# Altium footprint library leggiero.PcbLib: 15 footprints
Each footprint in its own frame and in the unit in brackets; x right, y up, seen from the top. Pads: shape width x height; smd on the part's side, far side on the other; paste and mask are expansions set on the pad; w line width, h text height; cw(c..) or ccw(c..) is an arc to the next point about the centre after c.
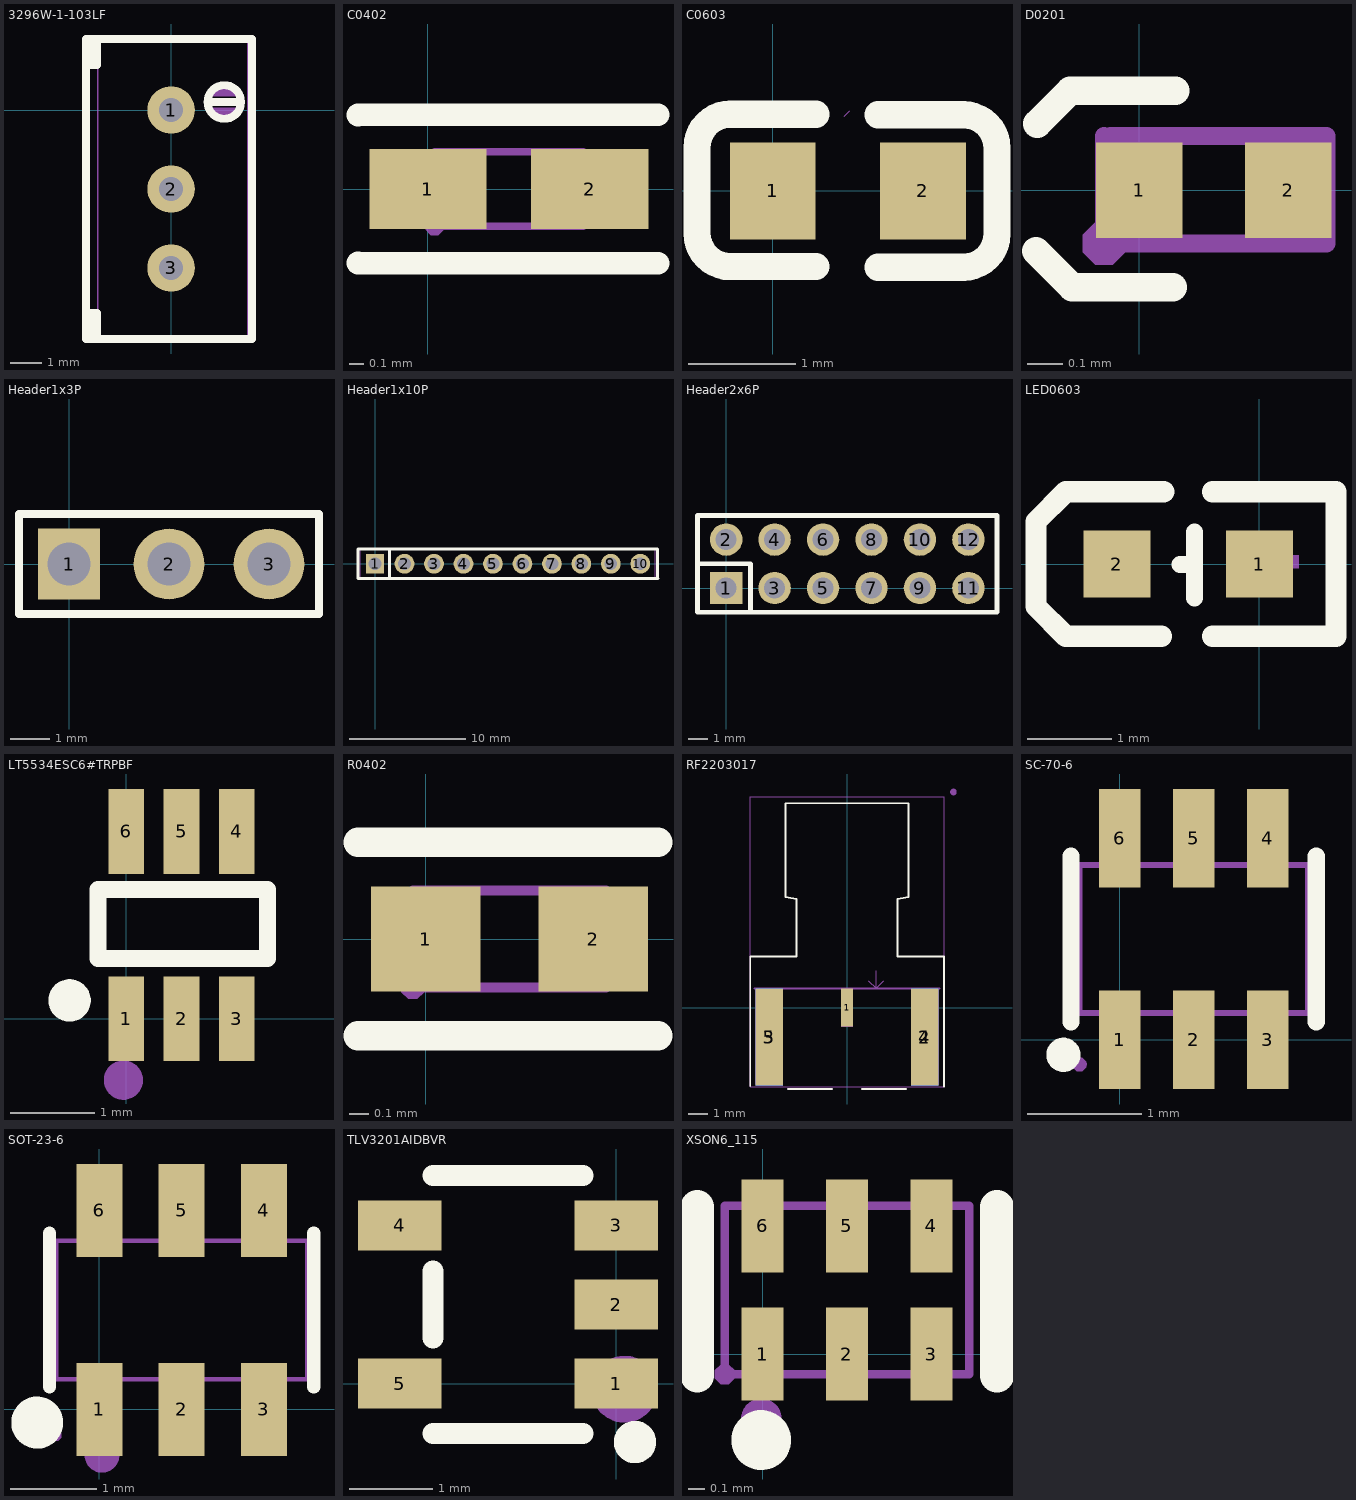
[diagram p0: the footprints below, top view; thin cyan lines are the x and y axes]

## 3296W-1-103LF [mil] "C34846"
pads (3):
  round 60 hole 30: 1(0,0) 2(0,-100) 3(0,-200)
Top Overlay:
  lines w10: 52.36,10.4 67.36,10.4 ; 88.61,10.01 cw(c67.35,10.21) 88.61,10.4 ; 67.36,10.4 82.36,10.4 67.36,10.4 ; -107.64,-290 102.36,-290 102.36,90 -107.64,90 -107.64,-290 ; -101.58,-287 -93.71,-287 -93.71,-257 -101.58,-257 -101.58,-287 ; -101.58,57.02 -93.71,57.02 -93.71,87.02 -101.58,87.02 -101.58,57.02
Mechanical 6:
  region: 87.27,17.65 86.13,20.69 82.14,25.81 76.81,29.51 70.61,31.45 64.12,31.45 57.92,29.51 52.58,25.81 48.59,20.69 47.45,17.65
  region: 47.45,3.16 48.59,0.12 52.58,-5 57.92,-8.7 64.11,-10.64 70.61,-10.64 76.8,-8.7 82.14,-5 86.13,0.12 87.27,3.16
Mechanical 15:
  region: -90.36,87.6 -90.38,88.57 -91.75,89.92 -93.68,89.92 -95.06,88.57 -95.08,87.6 -95.08,87.61 -95.06,86.64 -93.68,85.29 -91.75,85.29 -90.38,86.64
  region: 9.84,0.4 9.8,2.34 8.27,5.89 5.51,8.6 1.94,10.06 -1.93,10.06 -5.51,8.6 -8.27,5.89 -9.8,2.34 -9.84,0.4 -9.8,-1.53 -8.27,-5.08 -5.51,-7.79 -1.93,-9.25 1.94,-9.25 5.51,-7.79 8.27,-5.08 9.8,-1.53
  region: 9.84,-99.59 9.8,-97.66 8.27,-94.11 5.51,-91.4 1.94,-89.94 -1.93,-89.94 -5.51,-91.4 -8.27,-94.11 -9.8,-97.66 -9.84,-99.59 -9.8,-101.53 -8.27,-105.08 -5.51,-107.79 -1.93,-109.25 1.94,-109.25 5.51,-107.79 8.27,-105.08 9.8,-101.53
  region: 9.84,-200.38 9.8,-198.45 8.27,-194.9 5.51,-192.19 1.94,-190.73 -1.93,-190.73 -5.51,-192.19 -8.27,-194.9 -9.8,-198.45 -9.84,-200.38 -9.8,-202.32 -8.27,-205.87 -5.51,-208.58 -1.93,-210.04 1.94,-210.04 5.51,-208.58 8.27,-205.87 9.8,-202.32
  lines w2: -92.72,-287.59 97.44,-287.59 97.44,87.61 -92.72,87.61 -92.72,-287.59

## C0402 [mm]
pads (2):
  rect 0.79x0.54 smd paste-100 mask+0.051: 1(0,0) 2(1.09,0)
Top Overlay:
  lines w0.152: -0.471,-0.499 1.55,-0.5 ; -0.471,0.499 1.55,0.5
Top Paste:
  region: 0.365,0.225 0.365,-0.225 0.295,-0.275 -0.185,-0.275 -0.235,-0.225 -0.235,0.225 -0.185,0.275 0.295,0.275
  region: 1.325,0.225 1.325,-0.225 1.275,-0.275 0.795,-0.275 0.725,-0.225 0.725,0.225 0.795,0.275 1.275,0.275
Mechanical 15:
  region: 0.045,-0.25 0.045,0.25 0.295,0.25 0.295,-0.25
  region: 1.045,-0.25 1.045,0.25 0.795,0.25 0.795,-0.25
  region: 0.105,-0.25 0.105,-0.225 0.07,-0.19 0.02,-0.19 -0.015,-0.225 -0.015,-0.25 -0.015,-0.275 0.02,-0.31 0.07,-0.31 0.105,-0.275
  lines w0.051: 0.045,-0.25 0.045,0.25 1.045,0.25 1.045,-0.25 0.045,-0.25

## C0603 [mm]
pads (2):
  rect 0.8x0.9 smd: 1(0,0) 2(1.4,0)
Top Overlay:
  lines w0.254: 0.404,-0.704 -0.396,-0.704 cw(c-0.396,-0.394) -0.706,-0.394 -0.706,0.406 cw(c-0.396,0.406) -0.396,0.715 0.404,0.715 ; 0.98,-0.71 1.78,-0.71 ccw(c1.78,-0.4) 2.09,-0.4 2.09,0.4 ccw(c1.78,0.4) 1.78,0.71 0.98,0.71
Mechanical 15:
  lines w0.003: 0.667,0.696 0.718,0.747

## D0201 [mm] "MAVR-000120-1411 C5139746"
pads (2):
  rect 0.243x0.268 smd paste+0 mask+0.05: 1(0,0)
  rect 0.243x0.268 smd mask+0.05: 2(0.42,0)
Top Overlay:
  lines w0.08: -0.29,-0.171 -0.189,-0.273 0.095,-0.273 ; -0.287,0.186 -0.194,0.279 0.102,0.279
Mechanical 15:
  region: 0.093,-0.094 -0.047,-0.094 -0.047,0.096 0.093,0.096
  region: 0.466,-0.091 0.326,-0.091 0.326,0.099 0.466,0.099
  region: -0.039,-0.15 -0.039,-0.125 -0.074,-0.09 -0.124,-0.09 -0.159,-0.125 -0.159,-0.15 -0.159,-0.175 -0.124,-0.21 -0.074,-0.21 -0.039,-0.175
  lines w0.051: -0.099,-0.15 -0.099,0.152 ; -0.08,-0.15 0.527,-0.15 0.527,0.152 -0.08,0.152

## Header1x3P [mm]
pads (3):
  rect 1.575x1.8 hole 1.1: 1(0,0)
  round 1.8 hole 1.1: 2(2.54,0) 3(5.08,0)
Top Overlay:
  lines w0.203: -1.27,-1.27 -1.27,1.27 6.35,1.27 6.35,-1.27 -1.27,-1.27

## Header1x10P [mm]
pads (10):
  rect 1.575x1.7 hole 1.1: 1(0,0)
  round 1.7 hole 1.1: 2(2.54,0) 3(5.08,0) 4(7.62,0) 5(10.16,0) 6(12.7,0) 7(15.24,0) 8(17.78,0) 9(20.32,0) 10(22.86,0)
Top Overlay:
  lines w0.254: 1.261,-1.27 1.261,1.27 ; 24.33,-1.27 24.33,1.27 -1.47,1.27 -1.47,-1.27 24.384,-1.27
Mechanical 15:
  region: 22.54,0.32 23.18,0.32 23.18,-0.32 22.54,-0.32
  region: 20,0.32 20.64,0.32 20.64,-0.32 20,-0.32
  region: 17.46,0.32 18.1,0.32 18.1,-0.32 17.46,-0.32
  region: 14.92,0.32 15.56,0.32 15.56,-0.32 14.92,-0.32
  region: 12.38,0.32 13.02,0.32 13.02,-0.32 12.38,-0.32
  region: 9.84,0.32 10.48,0.32 10.48,-0.32 9.84,-0.32
  region: 7.3,0.32 7.94,0.32 7.94,-0.32 7.3,-0.32
  region: 4.76,0.32 5.4,0.32 5.4,-0.32 4.76,-0.32
  region: 2.22,0.32 2.86,0.32 2.86,-0.32 2.22,-0.32
  region: -0.32,0.32 0.32,0.32 0.32,-0.32 -0.32,-0.32
  region: -1.21,-1.25 -1.21,-1.225 -1.245,-1.19 -1.295,-1.19 -1.33,-1.225 -1.33,-1.25 -1.33,-1.275 -1.295,-1.31 -1.245,-1.31 -1.21,-1.275
  lines w0.051: -1.27,-1.25 24.13,-1.25 24.13,1.25 -1.27,1.25 -1.27,-1.25

## Header2x6P [mm]
pads (12):
  rect 1.7x1.7 hole 1.1: 1(0,0)
  round 1.7 hole 1.1: 2(0,2.54) 3(2.54,0) 4(2.54,2.54) 5(5.08,0) 6(5.08,2.54) 7(7.62,0) 8(7.62,2.54) 9(10.16,0) 10(10.16,2.54) 11(12.7,0) 12(12.7,2.54)
Top Overlay:
  lines w0.254: -1.5,1.277 1.27,1.277 1.27,-1.27 ; -1.5,-1.27 14.2,-1.27 14.2,3.81 -1.5,3.81 -1.5,-1.27
Mechanical 15:
  region: -1.41,-1.23 -1.41,-1.205 -1.445,-1.17 -1.495,-1.17 -1.53,-1.205 -1.53,-1.23 -1.53,-1.255 -1.495,-1.29 -1.445,-1.29 -1.41,-1.255
  region: 12.38,2.74 13.02,2.74 13.02,2.34 12.38,2.34
  region: 12.38,0.2 13.02,0.2 13.02,-0.2 12.38,-0.2
  region: 9.84,2.74 10.48,2.74 10.48,2.34 9.84,2.34
  region: 9.84,0.2 10.48,0.2 10.48,-0.2 9.84,-0.2
  region: 7.3,2.74 7.94,2.74 7.94,2.34 7.3,2.34
  region: 7.3,0.2 7.94,0.2 7.94,-0.2 7.3,-0.2
  region: 4.76,2.74 5.4,2.74 5.4,2.34 4.76,2.34
  region: 4.76,0.2 5.4,0.2 5.4,-0.2 4.76,-0.2
  region: 2.22,2.74 2.86,2.74 2.86,2.34 2.22,2.34
  region: 2.22,0.2 2.86,0.2 2.86,-0.2 2.22,-0.2
  region: -0.32,2.74 0.32,2.74 0.32,2.34 -0.32,2.34
  region: -0.32,0.2 0.32,0.2 0.32,-0.2 -0.32,-0.2
  lines w0.051: -1.47,-1.23 14.17,-1.23 14.17,3.77 -1.47,3.77 -1.47,-1.23

## LED0603 [mm]
pads (2):
  rect 0.8x0.8 smd: 1(0,0) 2(-1.702,0)
Top Overlay:
  lines w0.203: -0.95,-0.008 -0.775,-0.008 ; -0.775,-0.406 -0.775,0.381
  lines w0.254: -1.168,-0.864 -2.311,-0.864 -2.667,-0.508 -2.667,0.508 -2.311,0.864 -1.143,0.864 ; -0.559,-0.864 0.914,-0.864 0.914,0.864 -0.559,0.864
Mechanical 15:
  region: -2.044,0.05 -1.384,0.05 -1.384,-0.103 -2.044,-0.103
  region: 0.085,-0.275 0.085,0.385 0.237,0.385 0.237,-0.275
  region: -0.191,0.102 0.47,0.102 0.47,-0.051 -0.191,-0.051

## LT5534ESC6#TRPBF [mm]
pads (6):
  rect 0.42x1 smd: 1(0,0) 2(0.65,0) 3(1.3,0) 4(1.3,2.21) 5(0.65,2.21) 6(0,2.21)
Top Overlay:
  lines w0.2: -0.337,0.711 1.663,0.711 1.663,1.524 -0.337,1.524 -0.337,1.318 -0.337,0.711
  lines w0.25: -0.546,0.215 cw(c-0.671,0.216) -0.546,0.217
Mechanical 15:
  circle w0.254: c-0.036,-0.724 r0.105

## R0402 [mm]
pads (2):
  rect 0.566x0.54 smd paste-100 mask+0.051: 1(0,0) 2(0.866,0)
Top Overlay:
  lines w0.152: -0.35,-0.5 1.2,-0.5 ; -0.35,0.5 1.2,0.5
Top Paste:
  region: 0.298,-0.23 0.298,0.23 0.258,0.27 -0.243,0.27 -0.283,0.23 -0.283,-0.23 -0.243,-0.27 0.258,-0.27
  region: 0.568,-0.23 0.568,0.23 0.608,0.27 1.108,0.27 1.148,0.23 1.148,-0.23 1.108,-0.27 0.608,-0.27
Mechanical 15:
  region: -0.007,-0.25 -0.008,-0.226 -0.043,-0.192 -0.091,-0.192 -0.126,-0.226 -0.127,-0.25 -0.126,-0.274 -0.092,-0.308 -0.043,-0.308 -0.008,-0.274
  region: 0.184,0.25 0.184,-0.25 -0.066,-0.25 -0.066,0.25
  region: 0.684,-0.25 0.684,0.25 0.934,0.25 0.934,-0.25
  lines w0.051: -0.067,-0.25 0.933,-0.25 0.933,0.25 -0.067,0.25 -0.067,-0.25

## RF2203017 [mm] "C2982575"
pads (5):
  rect 0.61x1.97 smd: 1(0,0)
  rect 1.4x5 smd: 2(4,-1.515) 3(-4,-1.515)
  rect 1.4x5 smd far side: 4(4,-1.515) 5(-4,-1.515)
Top Overlay:
  lines w0.1: -4.978,-4.039 -4.978,2.625 -2.6,2.625 -2.6,5.585 -3.175,5.685 -3.175,10.515 3.175,10.515 3.175,5.685 2.6,5.585 2.6,2.625 5.004,2.625 5.004,-4.064 ; -3.048,-4.191 -0.762,-4.191 ; 0.762,-4.191 3.048,-4.191
Mechanical 13:
  lines w0.05: 1.1,1.385 1.5,0.985 ; 1.5,1.885 1.5,0.985 ; 1.9,1.385 1.5,0.985
  lines w0.1: -4.76,0.985 4.76,0.985
  text "PCB End" at -2.769,1.981 h0.81
  text "PCB Thincness 1.6mm" at -2.286,3.099 h0.3
Mechanical 15:
  region: 5.634,11.092 5.634,11.124 5.61,11.181 5.566,11.226 5.508,11.249 5.446,11.249 5.388,11.226 5.344,11.181 5.32,11.124 5.32,11.092 5.32,11.061 5.344,11.004 5.388,10.959 5.446,10.935 5.508,10.935 5.566,10.959 5.61,11.004 5.634,11.061
  region: -0.305,0.991 0.305,0.991 0.305,-0.991 -0.305,-0.991
  region: 3.315,0.991 4.712,0.991 4.712,-3.962 3.315,-3.962
  region: -4.724,1.003 -3.327,1.003 -3.327,-3.95 -4.724,-3.95
  lines w0.051: -4.978,-4.064 5.004,-4.064 5.004,10.846 -4.978,10.846 -4.978,-4.064

## SC-70-6 [mm] "TMUX1219DCKR C2867958"
pads (6):
  rect 0.364x0.866 smd: 1(0,0) 2(0.65,0) 3(1.3,0) 4(1.3,1.766) 5(0.65,1.766) 6(0,1.766)
Top Overlay:
  circle w0.15: c-0.493,-0.133 r0.075
  lines w0.152: -0.426,0.157 -0.426,1.609 ; 1.726,0.157 1.726,1.609
Mechanical 6:
  circle w0.15: c0.015,-0.006 r0.075
Mechanical 15:
  region: 0.787,1.983 0.787,1.623 0.512,1.623 0.512,1.983
  region: 0.787,1.633 0.787,1.523 0.512,1.523 0.512,1.633
  region: 0.137,1.633 0.137,1.523 -0.138,1.523 -0.138,1.633
  region: 0.137,1.983 0.137,1.623 -0.138,1.623 -0.138,1.983
  region: 1.437,1.633 1.437,1.523 1.162,1.523 1.162,1.633
  region: 1.437,1.983 1.437,1.623 1.162,1.623 1.162,1.983
  region: 1.437,0.133 1.437,0.243 1.162,0.243 1.162,0.133
  region: 1.437,-0.217 1.437,0.143 1.162,0.143 1.162,-0.217
  region: 0.787,0.133 0.787,0.243 0.512,0.243 0.512,0.133
  region: 0.787,-0.217 0.787,0.143 0.512,0.143 0.512,-0.217
  region: 0.137,0.133 0.137,0.243 -0.138,0.243 -0.138,0.133
  region: 0.137,-0.217 0.137,0.143 -0.138,0.143 -0.138,-0.217
  region: -0.29,-0.217 -0.291,-0.193 -0.325,-0.158 -0.374,-0.158 -0.409,-0.193 -0.41,-0.217 -0.409,-0.242 -0.375,-0.276 -0.326,-0.276 -0.291,-0.242
  lines w0.051: -0.35,0.233 1.65,0.233 1.65,1.533 -0.35,1.533 -0.35,0.233

## SOT-23-6 [mm] "HMC221BE C1526247"
pads (6):
  rect 0.532x1.072 smd: 1(0,0) 2(0.95,0) 3(1.9,0) 4(1.9,2.298) 5(0.95,2.298) 6(0,2.298)
Top Overlay:
  circle w0.3: c-0.718,-0.152 r0.15
  lines w0.152: -0.577,0.26 -0.577,2.038 ; 2.476,0.26 2.476,2.038
Mechanical 6:
  circle w0.2: c0.03,-0.531 r0.1
Mechanical 15:
  region: -0.44,-0.301 -0.441,-0.277 -0.476,-0.242 -0.525,-0.242 -0.56,-0.277 -0.56,-0.301 -0.56,-0.325 -0.525,-0.36 -0.476,-0.36 -0.441,-0.325
  region: -0.2,0.139 -0.2,0.359 0.2,0.359 0.2,0.139
  region: -0.2,-0.301 -0.2,0.149 0.2,0.149 0.2,-0.301
  region: 0.75,0.139 0.75,0.359 1.15,0.359 1.15,0.139
  region: 0.75,-0.301 0.75,0.149 1.15,0.149 1.15,-0.301
  region: 1.7,0.139 1.7,0.359 2.1,0.359 2.1,0.139
  region: 1.7,-0.301 1.7,0.149 2.1,0.149 2.1,-0.301
  region: 1.7,1.939 1.7,2.159 2.1,2.159 2.1,1.939
  region: 1.7,2.149 1.7,2.599 2.1,2.599 2.1,2.149
  region: 0.75,1.939 0.75,2.159 1.15,2.159 1.15,1.939
  region: 0.75,2.149 0.75,2.599 1.15,2.599 1.15,2.149
  region: -0.2,1.939 -0.2,2.159 0.2,2.159 0.2,1.939
  region: -0.2,2.149 -0.2,2.599 0.2,2.599 0.2,2.149
  lines w0.051: -0.5,0.349 2.4,0.349 2.4,1.949 -0.5,1.949 -0.5,0.349

## TLV3201AIDBVR [mm]
pads (5):
  rect 1x0.6 smd: 1(0,0) 2(0,0.95) 3(0,1.9) 4(-2.6,1.9) 5(-2.6,0)
Top Overlay:
  circle w0.254: c0.224,-0.701 r0.127
  lines w0.254: -2.2,-0.6 -0.4,-0.6 ; -2.2,0.55 -2.2,1.35 ; -2.2,2.5 -0.4,2.5
Mechanical 15:
  circle w0.4: c0.097,-0.066 r0.2

## XSON6_115 [mm]
pads (6):
  rect 0.25x0.55 smd mask+0.051: 1(0,0) 2(0.5,0) 3(1,0) 4(1,0.76) 5(0.5,0.76) 6(0,0.76)
Top Overlay:
  circle w0.254: c-0.008,-0.509 r0.05
  lines w0.2: -0.389,-0.128 -0.389,0.872 ; 1.389,-0.128 1.389,0.872
Mechanical 6:
  circle w0.12: c-0.008,-0.382 r0.06
Mechanical 15:
  region: -0.165,-0.12 -0.166,-0.096 -0.201,-0.063 -0.249,-0.063 -0.284,-0.096 -0.285,-0.12 -0.284,-0.144 -0.249,-0.177 -0.201,-0.177 -0.166,-0.144 -0.165,-0.12
  region: -0.1,0.23 0.1,0.23 0.1,-0.07 -0.1,-0.07
  region: 0.4,0.23 0.6,0.23 0.6,-0.07 0.4,-0.07
  region: 0.9,0.23 1.1,0.23 1.1,-0.07 0.9,-0.07
  region: 0.1,0.53 -0.1,0.53 -0.1,0.83 0.1,0.83
  region: 0.6,0.53 0.4,0.53 0.4,0.83 0.6,0.83
  region: 1.1,0.53 0.9,0.53 0.9,0.83 1.1,0.83
  lines w0.051: -0.225,-0.12 -0.225,0.88 1.225,0.88 1.225,-0.12 -0.225,-0.12